# EAGLE library part ADC122S021CIMM (library 029000100  -  gKEagleLibrary)
12-Bit A/D Converter
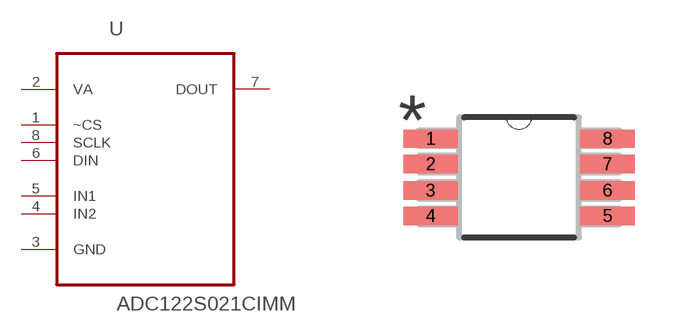
[diagram p28: symbol with the pads of SOP65P490X109-8N; footprint SOP65P490X109-8N]

Designator prefix U

## ADC122S021CIMM (MPN: ADC122S021CIMM; OC_FARNELL: 1007994; OC_NEWARK: 41K1597; PACKAGE: MSOP-8; SUPPLIER: National Semiconductor)  [SOP65P490X109-8N]
1  ~CS  in
2  VA  pwr
3  GND  pas
4  IN2  in
5  IN1  in
6  DIN  in
7  DOUT  out
8  SCLK  in

## Footprint SOP65P490X109-8N (pad centres in mm)
smd 1.372 x 0.457: 1 -2.21,0.965; 2 -2.21,0.33; 3 -2.21,-0.33; 4 -2.21,-0.965; 5 2.21,-0.965; 6 2.21,-0.33; 7 2.21,0.33; 8 2.21,0.965